# EAGLE library part 1X6-127 (library JLB6_Connec)
Test pins for Jtag (5+1)
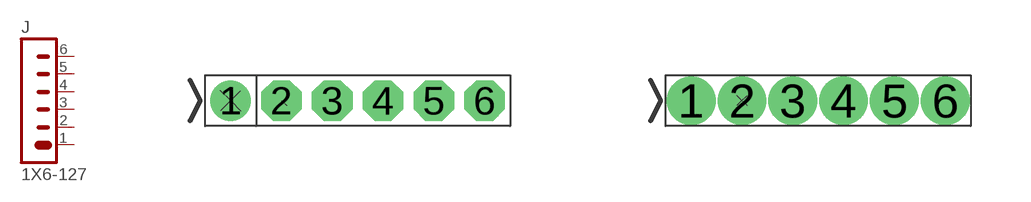
[diagram p16: symbol with the pads of 1X6-127OCT; footprints 1X6-127OCT, 1X6-127PROBE]

Designator prefix J

## 1X6-127OCT  [1X6-127OCT]
1  1  pas
2  2  pas
3  3  pas
4  4  pas
5  5  pas
6  6  pas

## 1X6-127PROBE  [1X6-127PROBE]
Pads as for 1X6-127OCT

## Footprint 1X6-127OCT (pad centres in mm)
drill 0.5 pad 1.016: 1 -3.175,0
drill 0.5 pad 1.016 octagon: 2 -1.905,0; 3 -0.635,0; 4 0.635,0; 5 1.905,0; 6 3.175,0

## Footprint 1X6-127PROBE (pad centres in mm)
drill 0.711 pad 1.118: 1 0,0; 2 1.27,0; 3 2.54,0; 4 3.81,0; 5 5.08,0; 6 6.35,0